# Altium schematic symbol library TS5A3159A.SchLib: 1 symbol
Pins are listed as number, name and electrical type; pins without a type are passive.

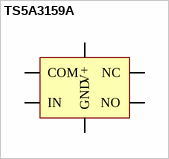
[diagram p0: symbol TS5A3159A]

## TS5A3159A
designator U?  (value not drawn)
pins: 1 NO, 2 GND, 3 NC, 4 COM, 5 V+, 6 IN